# EAGLE library part YB-ESP32-S3-ETH (library yb-esp32-s3-eth)
Yellobyte YB-ESP32-S3-ETH (ESP32S3 Ethernet/WiFi development board) Source: github.com/yellobyte/YB-ESP32-S3-ETH
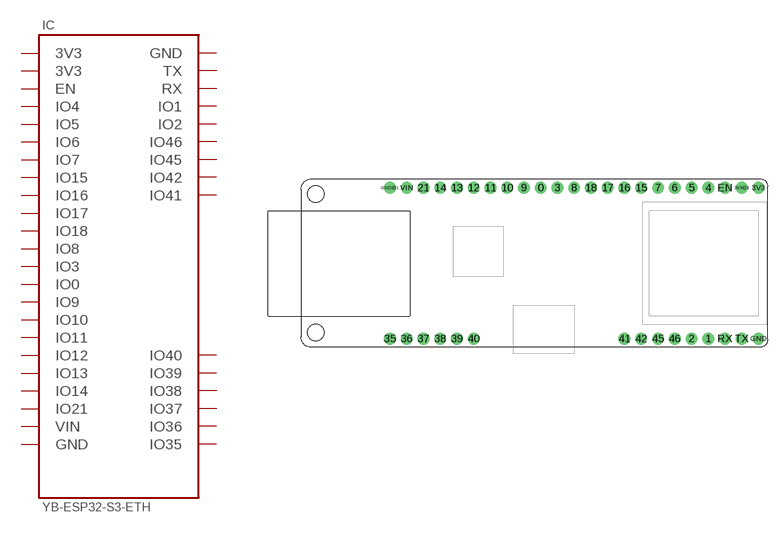
[diagram p0: symbol with the pads of YB-ESP32-S3-ETH; footprint YB-ESP32-S3-ETH]

Designator prefix IC

## YB-ESP32-S3-ETH  [YB-ESP32-S3-ETH]
0  IO0
1  IO1
2  IO2
3  IO3
3V3  3V3  pwr
3V3@1  3V3  pwr
4  IO4
5  IO5
6  IO6
7  IO7
8  IO8
9  IO9
10  IO10
11  IO11
12  IO12
13  IO13
14  IO14
15  IO15
16  IO16
17  IO17
18  IO18
21  IO21
35  IO35
36  IO36
37  IO37
38  IO38
39  IO39
40  IO40
41  IO41
42  IO42
45  IO45
46  IO46
EN  EN
GND  GND  pwr
GND@1  GND  pwr
RX  RX
TX  TX
VIN  VIN  pwr

## Footprint YB-ESP32-S3-ETH (pad centres in mm)
drill 1.016 pad 1.778: 0 35.563,24.132; 1 60.963,1.272; 2 58.423,1.272; 3 38.103,24.132; 3V3 68.583,24.132; 3V3@1 66.043,24.132; 4 60.963,24.132; 5 58.423,24.132; 6 55.883,24.132; 7 53.343,24.132; 8 40.643,24.132; 9 33.023,24.132; 10 30.483,24.132; 11 27.943,24.132; 12 25.403,24.132; 13 22.863,24.132; 14 20.323,24.132; 15 50.803,24.132; 16 48.263,24.132; 17 45.723,24.132; 18 43.183,24.132; 21 17.783,24.132; 35 12.703,1.272; 36 15.243,1.272; 37 17.783,1.272; 38 20.323,1.272; 39 22.863,1.272; 40 25.403,1.272; 41 48.263,1.272; 42 50.803,1.272; 45 53.343,1.272; 46 55.883,1.272; EN 63.503,24.132; GND 68.583,1.272; GND@1 12.703,24.132; RX 63.503,1.272; TX 66.043,1.272; VIN 15.243,24.132